# EAGLE library part CC2420 (library powercube)
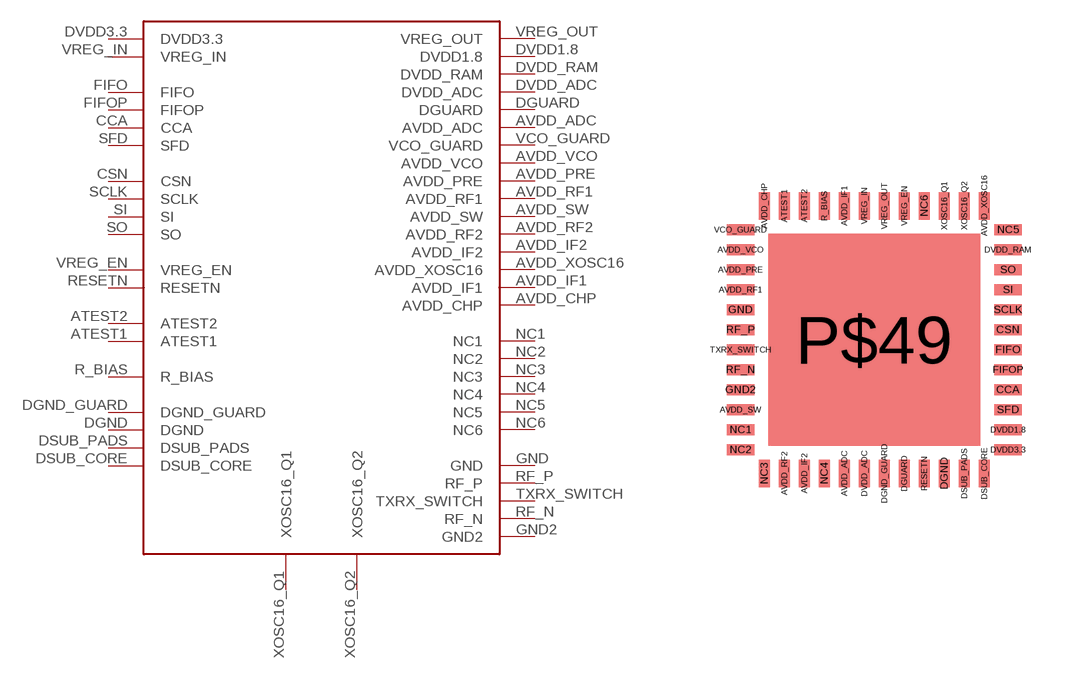
[diagram p9: symbol with the pads of CC2420; footprint CC2420]

Designator prefix -

## CC2420  [CC2420]
ATEST1  ATEST1
ATEST2  ATEST2
AVDD_ADC  AVDD_ADC
AVDD_CHP  AVDD_CHP
AVDD_IF1  AVDD_IF1
AVDD_IF2  AVDD_IF2
AVDD_PRE  AVDD_PRE
AVDD_RF1  AVDD_RF1
AVDD_RF2  AVDD_RF2
AVDD_SW  AVDD_SW
AVDD_VCO  AVDD_VCO
AVDD_XOSC16  AVDD_XOSC16
CCA  CCA
CSN  CSN
DGND  DGND
DGND_GUARD  DGND_GUARD
DGUARD  DGUARD
DSUB_CORE  DSUB_CORE
DSUB_PADS  DSUB_PADS
DVDD1.8  DVDD1.8
DVDD3.3  DVDD3.3
DVDD_ADC  DVDD_ADC
DVDD_RAM  DVDD_RAM
FIFO  FIFO
FIFOP  FIFOP
GND  GND
GND2  GND2
NC1  NC1
NC2  NC2
NC3  NC3
NC4  NC4
NC5  NC5
NC6  NC6
R_BIAS  R_BIAS
RESETN  RESETN
RF_N  RF_N
RF_P  RF_P
SCLK  SCLK
SFD  SFD
SI  SI
SO  SO
TXRX_SWITCH  TXRX_SWITCH
VCO_GUARD  VCO_GUARD
VREG_EN  VREG_EN
VREG_IN  VREG_IN
VREG_OUT  VREG_OUT
XOSC16_Q1  XOSC16_Q1
XOSC16_Q2  XOSC16_Q2

## Footprint CC2420 (pad centres in mm)
smd 0.28 x 0.69: ATEST1 -2.25,3.345; ATEST2 -1.75,3.345; AVDD_ADC -0.75,-3.345; AVDD_CHP -2.75,3.345; AVDD_IF1 -0.75,3.345; AVDD_IF2 -1.75,-3.345; AVDD_RF2 -2.25,-3.345; AVDD_XOSC16 2.75,3.345; DGND 1.75,-3.345; DGND_GUARD 0.25,-3.345; DGUARD 0.75,-3.345; DSUB_CORE 2.75,-3.345; DSUB_PADS 2.25,-3.345; DVDD_ADC -0.25,-3.345; NC3 -2.75,-3.345; NC4 -1.25,-3.345; NC6 1.25,3.345; R_BIAS -1.25,3.345; RESETN 1.25,-3.345; VREG_EN 0.75,3.345; VREG_IN -0.25,3.345; VREG_OUT 0.25,3.345; XOSC16_Q1 1.75,3.345; XOSC16_Q2 2.25,3.345
smd 0.69 x 0.28: AVDD_PRE -3.345,1.75; AVDD_RF1 -3.345,1.25; AVDD_SW -3.345,-1.75; AVDD_VCO -3.345,2.25; CCA 3.345,-1.25; CSN 3.345,0.25; DVDD1.8 3.345,-2.25; DVDD3.3 3.345,-2.75; DVDD_RAM 3.345,2.25; FIFO 3.345,-0.25; FIFOP 3.345,-0.75; GND -3.345,0.75; GND2 -3.345,-1.25; NC1 -3.345,-2.25; NC2 -3.345,-2.75; NC5 3.345,2.75; RF_N -3.345,-0.75; RF_P -3.345,0.25; SCLK 3.345,0.75; SFD 3.345,-1.75; SI 3.345,1.25; SO 3.345,1.75; TXRX_SWITCH -3.345,-0.25; VCO_GUARD -3.345,2.75
smd 5.3 x 5.3: P$49 0,0